# EAGLE library part 25LC1024 (library PocketCube)
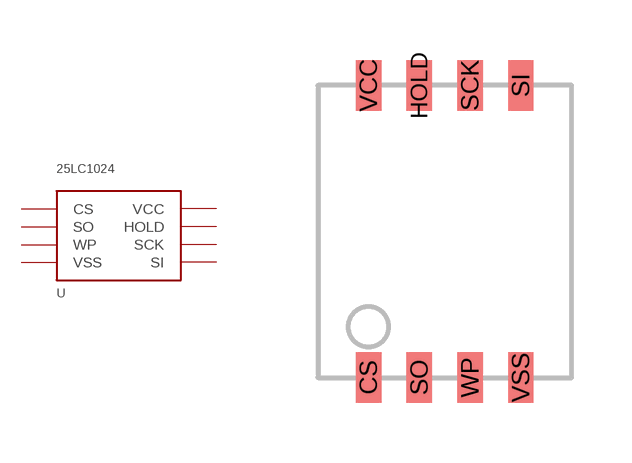
[diagram p25: symbol with the pads of 25LC1024; footprint 25LC1024]

Designator prefix -

## 25LC1024  [25LC1024]
CS  CS
HOLD  HOLD
SCK  SCK
SI  SI
SO  SO
VCC  VCC  pwr
VSS  VSS  pwr
WP  WP

## Footprint 25LC1024 (pad centres in mm)
smd 0.635 x 1.27: CS 0,0; HOLD 1.27,7.303; SCK 2.54,7.303; SI 3.81,7.303; SO 1.27,0; VCC 0,7.303; VSS 3.81,0; WP 2.54,0